# Altium footprint library HexaPod - Other.PcbLib: 3 footprints
Each footprint in its own frame and in the unit in brackets; x right, y up, seen from the top. Pads: shape width x height; smd on the part's side, far side on the other; paste and mask are expansions set on the pad; w line width, h text height; cw(c..) or ccw(c..) is an arc to the next point about the centre after c.
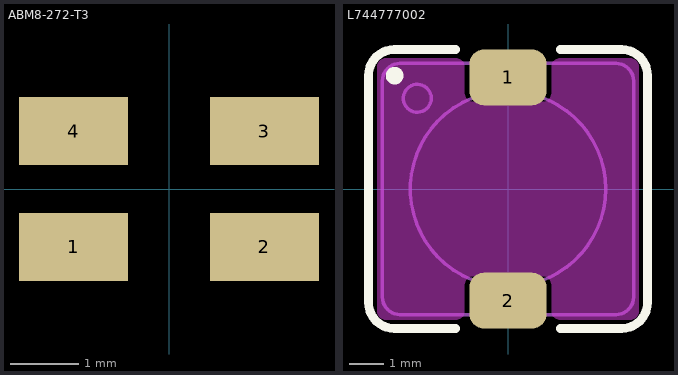
[diagram p0: the footprints below, top view; thin cyan lines are the x and y axes]

## ABM8-272-T3 [mm]
pads (4):
  rect 1.6x1 smd: 1(-1.4,-0.85) 2(1.4,-0.85) 3(1.4,0.85) 4(-1.4,0.85)
3D body "ABM8-272-T3.step": height 0.6, standoff 0, extent -1.6,-1.25 1.6,1.25

## L744777002 [mm]
pads (2):
  rrect50% 2.2x1.6 smd: 1(0,3.2) 2(0,-3.2)
Top Overlay:
  circle w0.254: c-3.25,3.25 r0.125
  lines w0.254: -1.5,-4 -3.25,-4 cw(c-3.25,-3.25) -4,-3.25 -4,3.25 cw(c-3.25,3.25) -3.25,4 -1.5,4 ; 1.5,-4 3.25,-4 ccw(c3.25,-3.25) 4,-3.25 4,3.25 ccw(c3.25,3.25) 3.25,4 1.5,4
Keep-Out Layer:
  region: -3.5,3.75 -3.55,3.75 -3.642,3.712 -3.712,3.642 -3.75,3.55 -3.75,3.5 -3.75,-3.5 -3.75,-3.55 -3.712,-3.642 -3.642,-3.712 -3.55,-3.75 -3.5,-3.75 -1.5,-3.75 -1.45,-3.75 -1.358,-3.712 -1.288,-3.642 -1.25,-3.55 -1.25,-3.5 -1.25,-2.75 -1.245,-2.701 -1.208,-2.611 -1.139,-2.542 -1.049,-2.505 -1,-2.5 1,-2.5 1.049,-2.505 1.139,-2.542 1.208,-2.611 1.245,-2.701 1.25,-2.75 1.25,-3.5 1.25,-3.55 1.288,-3.642 1.358,-3.712 1.45,-3.75 1.5,-3.75 3.5,-3.75 3.55,-3.75 3.642,-3.712 3.712,-3.642 3.75,-3.55 3.75,-3.5 3.75,3.5 3.75,3.55 3.712,3.642 3.642,3.712 3.55,3.75 3.5,3.75 1.5,3.75 1.45,3.75 1.358,3.712 1.288,3.642 1.25,3.55 1.25,3.5 1.25,2.75 1.245,2.701 1.208,2.611 1.139,2.542 1.049,2.505 1,2.5 -1,2.5 -1.049,2.505 -1.139,2.542 -1.208,2.611 -1.245,2.701 -1.25,2.75 -1.25,3.5 -1.25,3.55 -1.288,3.642 -1.358,3.712 -1.45,3.75 -1.5,3.75
Mechanical 1:
  circle w0.1: c-2.6,2.6 r0.4
  circle w0.1: c0,0 r2.8
  lines w0.1: -3.6,-3.1 ccw(c-3.1,-3.1) -3.1,-3.6 3.1,-3.6 ccw(c3.1,-3.1) 3.6,-3.1 3.6,3.1 ccw(c3.1,3.1) 3.1,3.6 -1.3,3.6 -3.1,3.6 ccw(c-3.1,3.1) -3.6,3.1 -3.6,-3.1
3D body "L744777002.step": height 4.5, standoff 0, extent -3.65,-3.65 3.65,3.65

## PCBComponent_1 [mm]